# EAGLE library part VNHXSP30 (library vnhxxsp30)
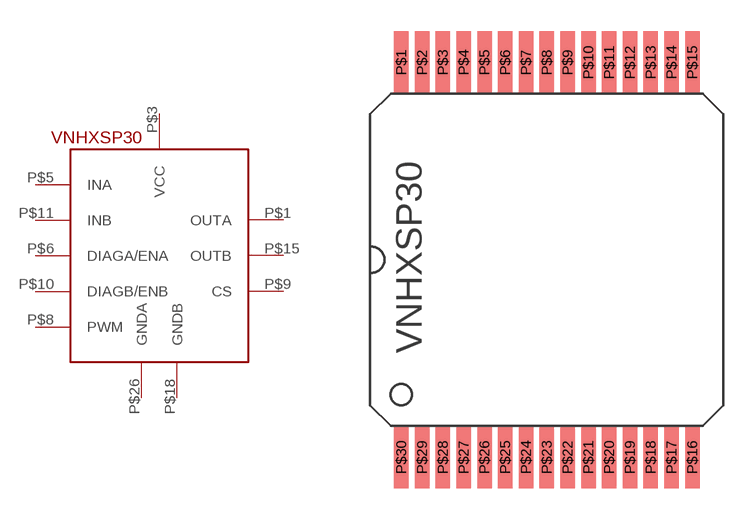
[diagram p0: symbol with the pads of VNHXSP30; footprint VNHXSP30]

Designator prefix -

## VNHXSP30  [VNHXSP30]
P$1  OUTA  out
P$3  VCC  pwr
P$5  INA  in
P$6  DIAGA/ENA  in
P$8  PWM  in
P$9  CS  out
P$10  DIAGB/ENB  in
P$11  INB  in
P$15  OUTB  out
P$18  GNDB  pwr
P$26  GNDA  pwr

## Footprint VNHXSP30 (pad centres in mm)
smd 0.7 x 3: P$1 -7,9.5; P$2 -6,9.5; P$3 -5,9.5; P$4 -4,9.5; P$5 -3,9.5; P$6 -2,9.5; P$7 -1,9.5; P$8 0,9.5; P$9 1,9.5; P$10 2,9.5; P$11 3,9.5; P$12 4,9.5; P$13 5,9.5; P$14 6,9.5; P$15 7,9.5; P$16 7,-9.5; P$17 6,-9.5; P$18 5,-9.5; P$19 4,-9.5; P$20 3,-9.5; P$21 2,-9.5; P$22 1,-9.5; P$23 0,-9.5; P$24 -1,-9.5; P$25 -2,-9.5; P$26 -3,-9.5; P$27 -4,-9.5; P$28 -5,-9.5; P$29 -6,-9.5; P$30 -7,-9.5